# EAGLE library part HV5122 (library HV5122-HV5222)
HV5122 / HV5222 are low-voltage serial to high-voltage parallel converters with open-drain outputs. These devices are primarily designed for use as a driver for AC electroluminescent displays. HV5122 / HV5222 can also be used in any application requiring multiple highvoltage, current-sinking output capabilities such as driving inkjet and electrostatic print heads, plasma panels, vacuum fluorescent, or large matrix LCD displays. These devices consist of a 32-bit shift register and control logic to perform the Output Enable and all-on functions. Data is shifted through the shift register on the high-to-low transition of the clock. HV5122 shifts in the counter-clockwise direction when viewed from the top of the package and HV5222 shifts in the clockwise direction. For cascading devices, HV5122 / HV5222 provides a data output buffer that reflects he current status of the last bit of the shift register. Operation of the shift register is not affected by the OE (Output Enable) or the STR (Strobe) inputs. HV5122 / HV5222 are designed to be used in systems which either switch off the high voltage supply before changing the state of the high voltage outputs or which limit the current through each output.
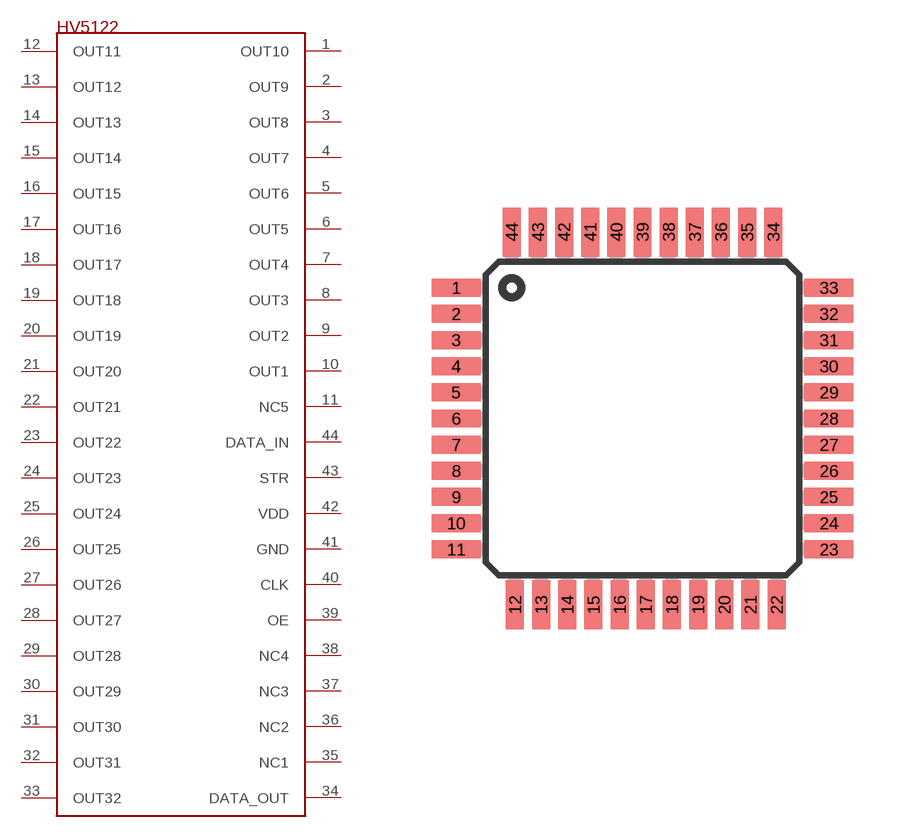
[diagram p0: symbol with the pads of PQFP; footprint PQFP]

Designator prefix -

## HV5122  [PQFP]
1  OUT10
2  OUT9
3  OUT8
4  OUT7
5  OUT6
6  OUT5
7  OUT4
8  OUT3
9  OUT2
10  OUT1
11  NC5
12  OUT11
13  OUT12
14  OUT13
15  OUT14
16  OUT15
17  OUT16
18  OUT17
19  OUT18
20  OUT19
21  OUT20
22  OUT21
23  OUT22
24  OUT23
25  OUT24
26  OUT25
27  OUT26
28  OUT27
29  OUT28
30  OUT29
31  OUT30
32  OUT31
33  OUT32
34  DATA_OUT
35  NC1
36  NC2
37  NC3
38  NC4
39  OE
40  CLK
41  GND
42  VDD
43  STR
44  DATA_IN

## Footprint PQFP (pad centres in mm)
smd 1.5 x 0.55: 1 -3.16,0.19; 2 -3.16,-0.61; 3 -3.16,-1.41; 4 -3.16,-2.21; 5 -3.16,-3.01; 6 -3.16,-3.81; 7 -3.16,-4.61; 8 -3.16,-5.41; 9 -3.16,-6.21; 10 -3.16,-7.01; 11 -3.16,-7.81; 23 8.24,-7.81; 24 8.24,-7.01; 25 8.24,-6.21; 26 8.24,-5.41; 27 8.24,-4.61; 28 8.24,-3.81; 29 8.24,-3.01; 30 8.24,-2.21; 31 8.24,-1.41; 32 8.24,-0.61; 33 8.24,0.19
smd 0.55 x 1.5: 12 -1.36,-9.51; 13 -0.56,-9.51; 14 0.24,-9.51; 15 1.04,-9.51; 16 1.84,-9.51; 17 2.64,-9.51; 18 3.44,-9.51; 19 4.24,-9.51; 20 5.04,-9.51; 21 5.84,-9.51; 22 6.64,-9.51; 34 6.54,1.89; 35 5.74,1.89; 36 4.94,1.89; 37 4.14,1.89; 38 3.34,1.89; 39 2.54,1.89; 40 1.74,1.89; 41 0.94,1.89; 42 0.14,1.89; 43 -0.66,1.89; 44 -1.46,1.89